# EAGLE library part CON_FFC_10 (library wheat)
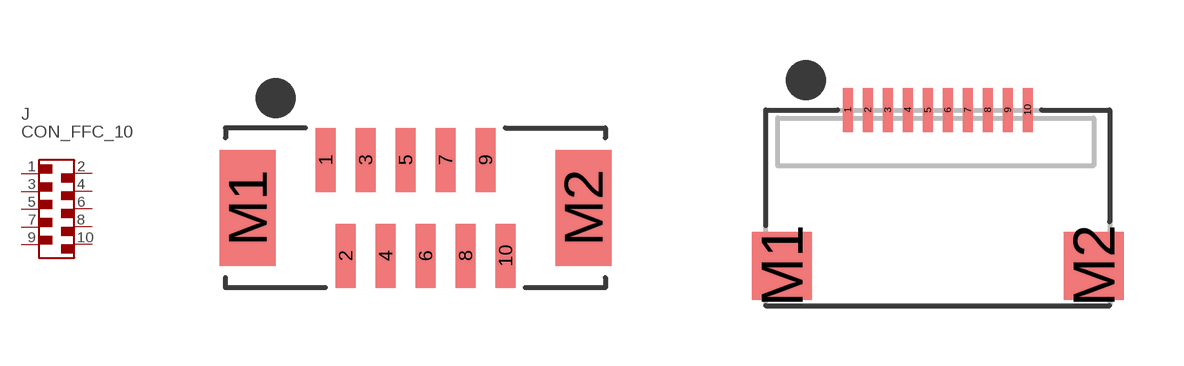
[diagram p216: symbol with the pads of CON_FFC_10; footprints CON_FFC_10, CON_FFC10_RA]

Designator prefix J

## CON_FFC_10_SM  [CON_FFC_10]
1  1  pas
2  2  pas
3  3  pas
4  4  pas
5  5  pas
6  6  pas
7  7  pas
8  8  pas
9  9  pas
10  10  pas

## CON_FFC_10_RA  [CON_FFC10_RA]
Pads as for CON_FFC_10

## CON_FFC_10_RA_SM_R  [CON_FFC10_RA]
1  10  pas
2  9  pas
3  8  pas
4  7  pas
5  6  pas
6  5  pas
7  4  pas
8  3  pas
9  2  pas
10  1  pas

## Footprint CON_FFC_10 (pad centres in mm)
smd 0.5 x 1.6: 1 -2.25,1.2; 2 -1.75,-1.2; 3 -1.25,1.2; 4 -0.75,-1.2; 5 -0.25,1.2; 6 0.25,-1.2; 7 0.75,1.2; 8 1.25,-1.2; 9 1.75,1.2; 10 2.25,-1.2
smd 1.4 x 2.9: M1 -4.2,0; M2 4.2,0

## Footprint CON_FFC10_RA (pad centres in mm)
smd 0.25 x 1.1: 1 -2.25,0; 2 -1.75,0; 3 -1.25,0; 4 -0.75,0; 5 -0.25,0; 6 0.25,0; 7 0.75,0; 8 1.25,0; 9 1.75,0; 10 2.25,0
smd 1.5 x 1.7: M1 -3.9,-3.9; M2 3.9,-3.9